# EAGLE library part TJA1051T/3/1J (library TJA1051)
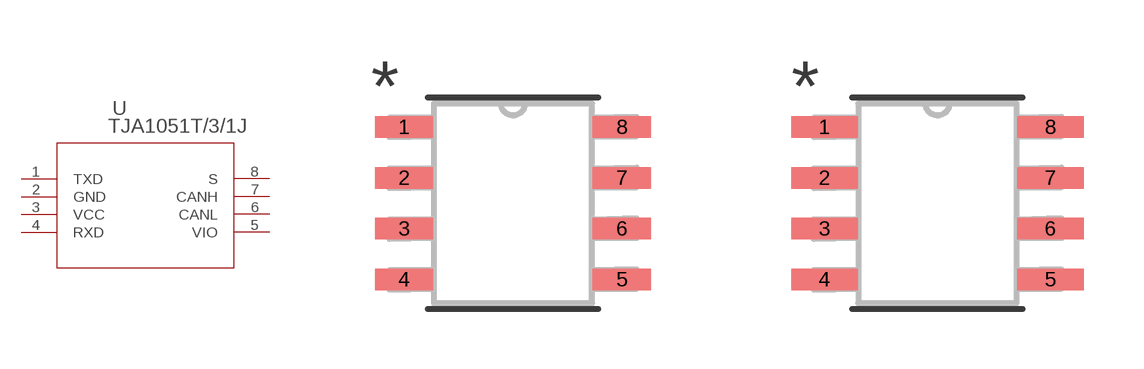
[diagram p0: symbol with the pads of SO8_SOT96-1_NXP; footprints SO8_SOT96-1_NXP, SO8_SOT96-1_NXP-M]

Designator prefix U

## TJA1051T/3/1J (BUILT_BY: EMA_Cory; COPYRIGHT: Copyright (C) 2018 Accelerated Designs. All rights reserved; DATASHEET: https://www.nxp.com/docs/en/data-sheet/TJA1051.pdf; MANUFACTURER_PART_NUMBER: TJA1051T/3/1J; SOURCELIBRARY: NXP_2020-10-08; VENDOR: NXP)  [SO8_SOT96-1_NXP]
1  TXD  in
2  GND  pas
3  VCC  pwr
4  RXD  out
5  VIO  pwr
6  CANL
7  CANH
8  S  in

## TJA1051T/3/1JSO8_SOT96-1_NXP-M (BUILT_BY: EMA_Cory; COPYRIGHT: Copyright (C) 2018 Accelerated Designs. All rights reserved; DATASHEET: https://www.nxp.com/docs/en/data-sheet/TJA1051.pdf; MANUFACTURER_PART_NUMBER: TJA1051T/3/1J; SOURCELIBRARY: NXP_2020-10-08; VENDOR: NXP)  [SO8_SOT96-1_NXP-M]
Pads as for SO8_SOT96-1_NXP

## TJA1051T/3/1JSO8_SOT96-1_NXP-L (BUILT_BY: EMA_Cory; COPYRIGHT: Copyright (C) 2018 Accelerated Designs. All rights reserved; DATASHEET: https://www.nxp.com/docs/en/data-sheet/TJA1051.pdf; MANUFACTURER_PART_NUMBER: TJA1051T/3/1J; SOURCELIBRARY: NXP_2020-10-08; VENDOR: NXP)  [SO8_SOT96-1_NXP-L]
Pads as for SO8_SOT96-1_NXP

## Footprint SO8_SOT96-1_NXP (pad centres in mm)
smd 1.46 x 0.533: 1 -2.724,1.905; 2 -2.724,0.635; 3 -2.724,-0.635; 4 -2.724,-1.905; 5 2.724,-1.905; 6 2.724,-0.635; 7 2.724,0.635; 8 2.724,1.905

## Footprint SO8_SOT96-1_NXP-M (pad centres in mm)
smd 1.664 x 0.533: 1 -2.826,1.905; 2 -2.826,0.635; 3 -2.826,-0.635; 4 -2.826,-1.905; 5 2.826,-1.905; 6 2.826,-0.635; 7 2.826,0.635; 8 2.826,1.905

## Footprint SO8_SOT96-1_NXP-L (pad centres in mm)
smd 1.257 x 0.483: 1 -2.623,1.905; 2 -2.623,0.635; 3 -2.623,-0.635; 4 -2.623,-1.905; 5 2.623,-1.905; 6 2.623,-0.635; 7 2.623,0.635; 8 2.623,1.905